# Altium schematic symbol library AEM10941-QFN.SchLib: 1 symbol
Pins are listed as number, name and electrical type; pins without a type are passive.

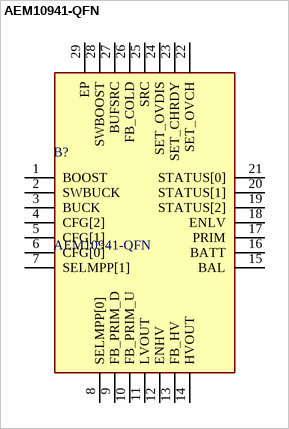
[diagram p0: symbol AEM10941-QFN]

## AEM10941-QFN
designator B?
Power Management Specialized - PMIC PV Cell PMIC; Manufacturer_Name: E-PEAS; Geometry.Height: 0.9mm; Mouser Part Number: 120-AEM10941-QFN; Mouser Price/Stock: https://www.mouser.co.uk/ProductDetail/e-peas/AEM10941-QFN?qs=W%2FMpXkg%252BdQ7CeqB2lBPbRQ%3D%3D; Manufacturer_Part_Number: AEM10941-QFN; Datasheet Link: https://e-peas.com/product/aem10941/
footprint QFN50P500X500X90-29N-D
pins: 1 BOOST, 2 SWBUCK, 3 BUCK, 4 CFG[2], 5 CFG[1], 6 CFG[0], 7 SELMPP[1], 8 SELMPP[0], 9 FB_PRIM_D, 10 FB_PRIM_U, 11 LVOUT, 12 ENHV, 13 FB_HV, 14 HVOUT, 15 BAL, 16 BATT, 17 PRIM, 18 ENLV, 19 STATUS[2], 20 STATUS[1], 21 STATUS[0], 22 SET_OVCH, 23 SET_CHRDY, 24 SET_OVDIS, 25 SRC, 26 FB_COLD, 27 BUFSRC, 28 SWBOOST, 29 EP